# Altium footprint library Radios_Comunitarias.PcbLib: 39 footprints (part 3 of 3)
Each footprint in its own frame and in the unit in brackets; x right, y up, seen from the top. Pads: shape width x height; smd on the part's side, far side on the other; paste and mask are expansions set on the pad; w line width, h text height; cw(c..) or ccw(c..) is an arc to the next point about the centre after c.
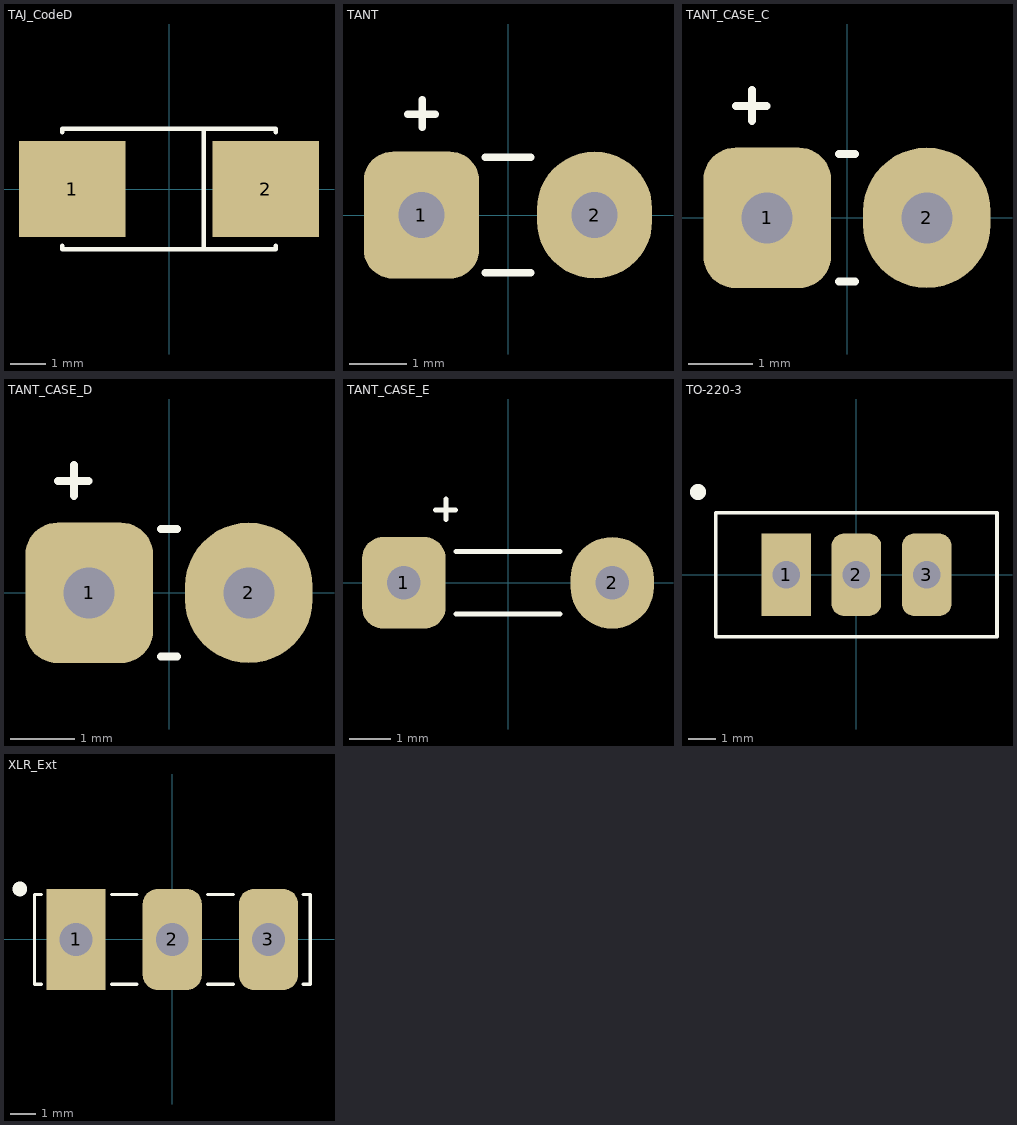
[diagram p2: the footprints below, top view; thin cyan lines are the x and y axes]

## TAJ_CodeD [mm] "Capacitor de tantalio D"
height 2.8
pads (2):
  rect 3x2.7 smd: 1(-2.72,0) 2(2.72,0)
Top Overlay:
  lines w0.127: -3,-1.6 -3,-1.7 3,-1.7 3,-1.6 ; -3,1.6 -3,1.7 3,1.7 3,1.6 ; 0.975,-1.7 0.975,1.7

## TANT [mm] "Tantalio TH"
pads (2):
  rrect50% 2x2.2 hole 0.8 unplated: 1(-1.5,0)
  oval 2x2.2 hole 0.8 unplated: 2(1.5,0)
Top Overlay:
  lines w0.127: -1.741,1.75 -1.259,1.75 ; -1.487,1.521 -1.487,2.004 ; -0.4,-1 0.4,-1 ; -0.4,1 0.4,1

## TANT_CASE_C [mm] "Tantalio TH case C"
pads (2):
  rrect50% 2x2.2 hole 0.8 unplated: 1(-1.25,0)
  oval 2x2.2 hole 0.8 unplated: 2(1.25,0)
Top Overlay:
  lines w0.127: -1.741,1.75 -1.259,1.75 ; -1.487,1.521 -1.487,2.004 ; -0.125,-1 0.125,-1 ; -0.125,1 0.125,1

## TANT_CASE_D [mm] "Tantalio TH case D"
pads (2):
  rrect50% 2x2.2 hole 0.8 unplated: 1(-1.25,0)
  oval 2x2.2 hole 0.8 unplated: 2(1.25,0)
Top Overlay:
  lines w0.127: -1.741,1.75 -1.259,1.75 ; -1.487,1.521 -1.487,2.004 ; -0.125,-1 0.125,-1 ; -0.125,1 0.125,1

## TANT_CASE_E [mm] "Tantalio TH case E"
pads (2):
  rrect50% 2x2.2 hole 0.8 unplated: 1(-2.5,0)
  oval 2x2.2 hole 0.8 unplated: 2(2.5,0)
Top Overlay:
  lines w0.127: -1.741,1.75 -1.259,1.75 ; -1.487,1.521 -1.487,2.004 ; -1.25,-0.75 1.25,-0.75 ; -1.25,0.75 1.25,0.75

## TO-220-3 [mm] "Encapsulado TH de 3 terminales"
height 18.5
pads (3):
  rect 1.8x3 hole 1 unplated: 1(-2.55,0)
  rrect50% 1.8x3 hole 1 unplated: 2(0,0) 3(2.55,0)
Top Overlay:
  circle w0.508: c-5.75,3 r0.035
  lines w0.127: -5.1,-2.25 -5.1,2.25 5.1,2.25 5.1,-2.25 -5.1,-2.25

## XLR_Ext [mm] "Cables para el XLR que va en el chasis"
pads (3):
  rect 2.34x4 hole 1.3: 1(-3.81,0)
  rrect50% 2.34x4 hole 1.3: 2(0,0) 3(3.81,0)
Top Overlay:
  circle w0.508: c-6.035,2 r0.035
  lines w0.127: -5.182,-1.778 -5.461,-1.778 -5.461,1.778 -5.182,1.778 ; -2.413,-1.778 -1.397,-1.778 ; -2.413,1.778 -1.397,1.778 ; 1.397,-1.778 2.413,-1.778 ; 1.397,1.778 2.413,1.778 ; 5.182,-1.778 5.461,-1.778 5.461,1.778 5.182,1.778